# EAGLE library part TSW-S-29 (library con-samtec-tsw)
HEADER
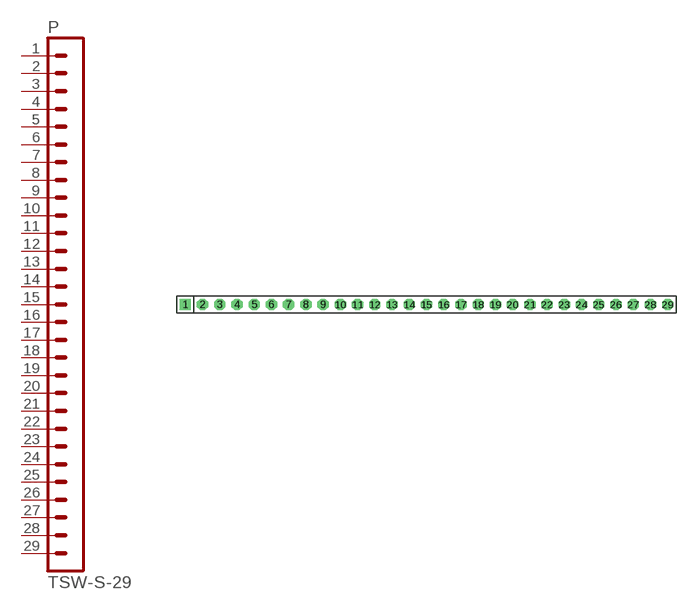
[diagram p23: symbol with the pads of TSW-S-29; footprint TSW-S-29]

Designator prefix P

## TSW-S-29  [TSW-S-29]
1  1  pas
2  2  pas
3  3  pas
4  4  pas
5  5  pas
6  6  pas
7  7  pas
8  8  pas
9  9  pas
10  10  pas
11  11  pas
12  12  pas
13  13  pas
14  14  pas
15  15  pas
16  16  pas
17  17  pas
18  18  pas
19  19  pas
20  20  pas
21  21  pas
22  22  pas
23  23  pas
24  24  pas
25  25  pas
26  26  pas
27  27  pas
28  28  pas
29  29  pas

## Footprint TSW-S-29 (pad centres in mm)
HEADER
drill 0.914 pad 1.676 square: 1 -35.56,0
drill 0.914 pad 1.676 octagon: 2 -33.02,0; 3 -30.48,0; 4 -27.94,0; 5 -25.4,0; 6 -22.86,0; 7 -20.32,0; 8 -17.78,0; 9 -15.24,0; 10 -12.7,0; 11 -10.16,0; 12 -7.62,0; 13 -5.08,0; 14 -2.54,0; 15 0,0; 16 2.54,0; 17 5.08,0; 18 7.62,0; 19 10.16,0; 20 12.7,0; 21 15.24,0; 22 17.78,0; 23 20.32,0; 24 22.86,0; 25 25.4,0; 26 27.94,0; 27 30.48,0; 28 33.02,0; 29 35.56,0